# Altium footprint library adafruit.PCBLIB: 630 footprints (part 28 of 40)
Each footprint in its own frame and in the unit in brackets; x right, y up, seen from the top. Pads: shape width x height; smd on the part's side, far side on the other; paste and mask are expansions set on the pad; w line width, h text height; cw(c..) or ccw(c..) is an arc to the next point about the centre after c.
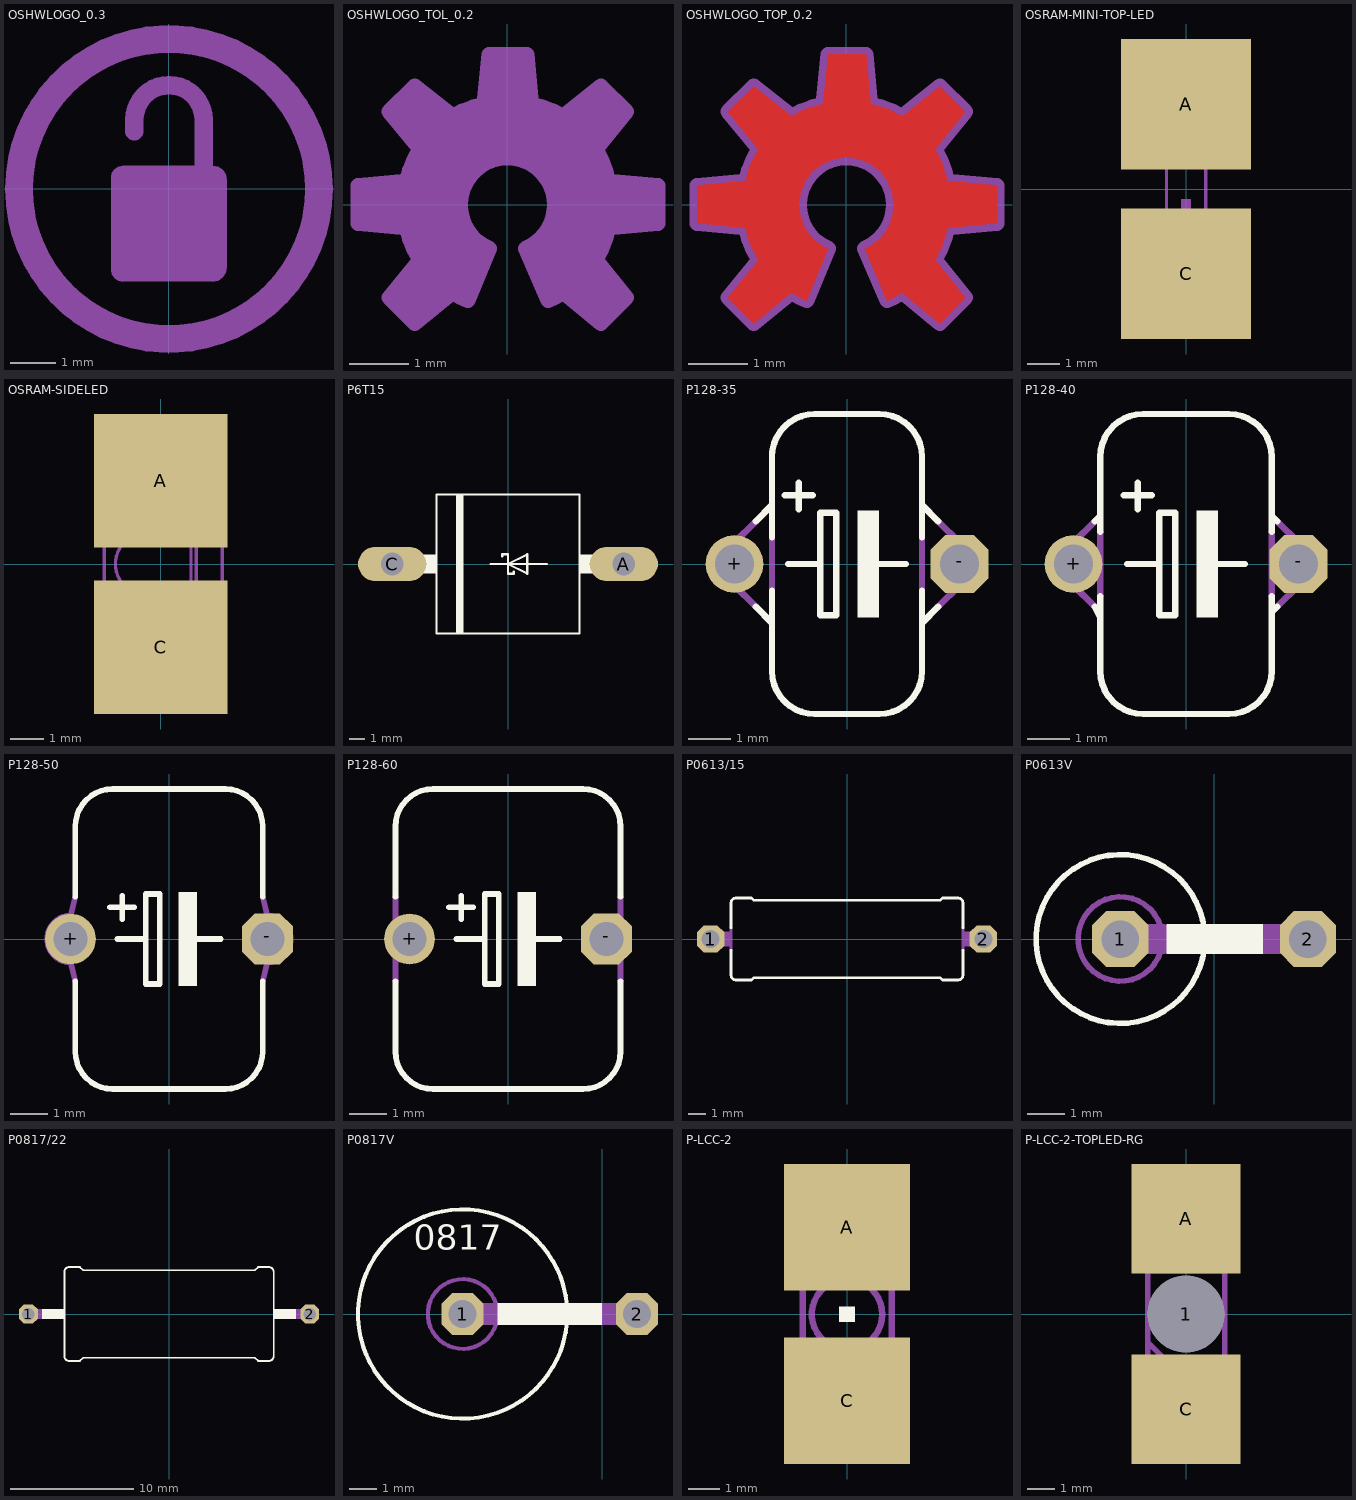
[diagram p27: the footprints below, top view; thin cyan lines are the x and y axes]

## OSHWLOGO_0.3 [mil]
Mechanical 16:
  circle w24: c0,0 r130
  region: 50.24,-68 49.3,-72.68 46.65,-76.65 42.68,-79.3 38,-80.24 38,-80 -40,-80.2 -43.9,-79.42 -47.21,-77.21 -49.42,-73.9 -50.2,-70 -50,-70 -50.2,10 -49.42,13.9 -47.21,17.21 -43.9,19.42 -40,20.2 -40,20 38,20.24 42.68,19.3 46.65,16.65 49.3,12.68 50.24,8 50,8
  lines w16: -30,50 -30,60 cw(c0,60) 0,90 cw(c0,60) 30,60 30,20

## OSHWLOGO_TOL_0.2 [mil]
Mechanical 16:
  region: 27.11,-63.79 37.1,-58.46 37,-58.3 62,-78.8 79,-61.57 59.05,-36.46 63.47,-28.19 67.31,-15.53 67,-15.46 100,-12.19 100,13 67.31,16.06 63.46,28.77 59.04,37.03 59,37 79,62 62,79 37.03,59.04 28.77,63.46 16.06,67.31 16,67 13,100 -12.19,100 -15.53,67.31 -28.19,63.47 -36.46,59.05 -36.43,59 -61.57,79 -78.8,62 -58.44,37.08 -63.81,27.02 -67.15,16.04 -66.99,16 -99.26,13 -99.26,-12.19 -67.14,-15.5 -63.82,-26.44 -58.44,-36.52 -58.3,-36.43 -78.8,-61.57 -61.57,-78.8 -36.52,-58.44 -26.44,-63.83 -26.31,-63.52 -11.96,-28.87 -15.76,-27.3 -22.29,-22.29 -27.3,-15.76 -30.45,-8.16 -31.52,0 -31.52,0.01 -30.45,8.17 -27.3,15.78 -22.28,22.31 -15.75,27.32 -8.15,30.47 0.02,31.55 8.18,30.47 15.79,27.32 22.32,22.31 27.33,15.78 30.48,8.17 31.56,0.01 30.48,-8.15 27.33,-15.76 22.32,-22.29 15.79,-27.31 12,-28.87
  lines w10: -99.26,-12.19 -99.26,13 -66.99,16 cw(c0.09,0.55) -58.3,37 -78.8,62 -61.57,79 -36.43,59 cw(c-2.05,0.35) -15.46,67 -12.19,100 13,100 16,67 cw(c2.6,0.26) 37,59 62,79 79,62 59,37 cw(c0.26,2.6) 67,16 100,13 100,-12.19 67,-15.46 cw(c0.35,-2.05) 59,-36.43 79,-61.57 62,-78.8 37,-58.3 cw(c0.61,-0.74) 27,-63.52 12,-28.87 ccw(c0.02,0.01) -31.25,0 ccw(c0,0) -11.96,-28.87 -26.31,-63.52 cw(c0.02,-0.01) -36.43,-58.3 -61.57,-78.8 -78.8,-61.57 -58.3,-36.43 cw(c0,0) -66.99,-15.46 -99.26,-12.19

## OSHWLOGO_TOP_0.2 [mil]
Top Layer:
  region: 27.11,-63.79 37.1,-58.46 37,-58.3 62,-78.8 79,-61.57 59.05,-36.46 63.47,-28.19 67.31,-15.53 67,-15.46 100,-12.19 100,13 67.31,16.06 63.46,28.77 59.04,37.03 59,37 79,62 62,79 37.03,59.04 28.77,63.46 16.06,67.31 16,67 13,100 -12.19,100 -15.53,67.31 -28.19,63.47 -36.46,59.05 -36.43,59 -61.57,79 -78.8,62 -58.44,37.08 -63.81,27.02 -67.15,16.04 -66.99,16 -99.26,13 -99.26,-12.19 -67.14,-15.5 -63.82,-26.44 -58.44,-36.52 -58.3,-36.43 -78.8,-61.57 -61.57,-78.8 -36.52,-58.44 -26.44,-63.83 -26.31,-63.52 -11.96,-28.87 -15.76,-27.3 -22.29,-22.29 -27.3,-15.76 -30.45,-8.16 -31.52,0 -31.52,0.01 -30.45,8.17 -27.3,15.78 -22.28,22.31 -15.75,27.32 -8.15,30.47 0.02,31.55 8.18,30.47 15.79,27.32 22.32,22.31 27.33,15.78 30.48,8.17 31.56,0.01 30.48,-8.15 27.33,-15.76 22.32,-22.29 15.79,-27.31 12,-28.87
Mechanical 16:
  lines w10: -99.26,-12.19 -99.26,13 -66.99,16 cw(c0.09,0.55) -58.3,37 -78.8,62 -61.57,79 -36.43,59 cw(c-2.05,0.35) -15.46,67 -12.19,100 13,100 16,67 cw(c2.6,0.26) 37,59 62,79 79,62 59,37 cw(c0.26,2.6) 67,16 100,13 100,-12.19 67,-15.46 cw(c0.35,-2.05) 59,-36.43 79,-61.57 62,-78.8 37,-58.3 cw(c0.61,-0.74) 27,-63.52 12,-28.87 ccw(c0.02,0.01) -31.25,0 ccw(c0,0) -11.96,-28.87 -26.31,-63.52 cw(c0.02,-0.01) -36.43,-58.3 -61.57,-78.8 -78.8,-61.57 -58.3,-36.43 cw(c0,0) -66.99,-15.46 -99.26,-12.19

## OSRAM-MINI-TOP-LED [mil]
pads (2):
  rect 158x158 smd: A(0,103) C(0,-102.36)
Top Overlay:
  text "A" at -25,75 h77.5
  text "C" at -25,-125 h77.5
Top Paste:
  rectangle: -19.68,24 20,56
  rectangle: -19.68,-55.12 20,-23.62
  rectangle: -17.72,26 18,54
  rectangle: -17.72,-53.15 18,-25.59
Mechanical 16:
  rectangle: -5.91,-23.62 6,-11.81
  lines w4: -17.72,38 -17.72,44 18,44 18,38 ; 18,-37.4 18,-43.31 -17.72,-43.31 -17.72,-35.43 -15.75,-35.43 ; -15.75,-35.43 24,-35.43 24,36 -23.62,36 -23.62,-27.56 -15.75,-35.43

## OSRAM-SIDELED [mil]
pads (2):
  rect 158x158 smd: A(0,99) C(0,-98.43)
Top Overlay:
  text "C" at 25,-125 h77.5
  text "A" at 25,100 h77.5
Top Paste:
  rectangle: -74.8,-82.68 75,-23.62
  rectangle: -74.8,24 75,83
Top Solder:
  rectangle: -82.68,-86.61 83,-15.75
  rectangle: -82.68,16 83,87
Mechanical 16:
  rectangle: -72.83,-80.71 -27.56,-39.37
  lines w4: 34,-47.24 -21.65,-35.43 cw(c-17.68,0.28) -21.65,36 34,48 ; 36,-80.71 36,81 ; 36,-80.71 -72.83,-80.71 -72.83,-29.53 -66.93,-29.53 -66.93,30 -72.83,30 -72.83,81 36,81 ; 36,-80.71 42,-80.71 ; 36,81 42,81 ; 42,-80.71 73,-72.83 73,73 42,81 ; 42,-80.71 42,81

## P6T15 [mil]
pads (2):
  oval 177x88.5 hole 59: A(300,0) C(-300,0)
Top Overlay:
  rectangle: -135,-180 -115,180
  rectangle: 185,-25 235,25
  rectangle: -235,-25 -185,25
  lines w6: -45,0 0,0 ; -15,20 -15,25 0,25 0,0 ; 15,-20 15,-25 0,-25 0,0 ; 100,0 0,0 ; 0,0 50,25 50,-25 0,0 ; -185,-180 -185,180 185,180 185,-180 -185,-180
Mechanical 16:
  lines w50: -300,0 -245,0 ; 245,0 300,0

## P128-35 [mil]
pads (2):
  round 54 hole 36: +(-105,0)
  oct 54x54 hole 36: -(105,0)
Top Overlay:
  rectangle: 10,-50 30,50
  lines w6: -85,-40 -70,-55 ; -85,40 -70,55 ; -70,-25 -70,-55 ; -70,25 -70,55 ; -70,100 cw(c-30,100) -30,140 30,140 cw(c30,100) 70,100 70,55 ; -70,105 -70,55 ; -58,64 -32,64 ; -55,0 -25,0 ; -45,51 -45,76 ; 25,0 55,0 ; 70,-25 70,-55 ; 70,25 70,55 ; 85,-40 70,-55 ; 85,40 70,55 ; -70,-55 -70,-100 ccw(c-30,-100) -30,-140 30,-140 ccw(c30,-100) 70,-100 70,-55 ; -25,0 -25,-48 -10,-48 -10,48 -25,48 -25,0
Mechanical 16:
  lines w6: -85,-40 -105,-20 cw(c-105,0) -105,20 -85,40 ; -70,-25 -70,25 ; 70,-25 70,25 ; 85,-40 105,-20 ccw(c105,0) 105,20 85,40

## P128-40 [mil]
pads (2):
  round 54 hole 36: +(-105,0)
  oct 54x54 hole 36: -(105,0)
Top Overlay:
  rectangle: 10,-50 30,50
  lines w6: -85,-40 -80,-50 ; -85,40 -80,45 ; -80,-30 -80,-50 ; -80,30 -80,45 ; -58,64 -32,64 ; -55,0 -25,0 ; -45,51 -45,76 ; 25,0 55,0 ; 80,-30 80,-45 ; 80,30 80,45 ; 85,-40 80,-45 ; 85,40 80,45 ; -80,-50 -80,-100 ccw(c-40,-100) -40,-140 40,-140 ccw(c40,-100) 80,-100 80,-45 ; -80,45 -80,100 cw(c-40,100) -40,140 40,140 cw(c40,100) 80,100 80,45 ; -25,0 -25,-48 -10,-48 -10,48 -25,48 -25,0
Mechanical 16:
  lines w6: -85,-40 -105,-20 cw(c-105,0) -105,20 -85,40 ; -80,-30 -80,30 ; 80,-30 80,30 ; 85,-40 105,-20 ccw(c105,0) 105,20 85,40

## P128-50 [mil]
pads (2):
  round 54 hole 36: +(-105,0)
  oct 54x54 hole 36: -(105,0)
Top Overlay:
  rectangle: 10,-50 30,50
  lines w6: -100,-45 -100,-120 ccw(c-60,-120) -60,-160 60,-160 ccw(c60,-120) 100,-120 100,-45 ; -100,45 -100,120 cw(c-60,120) -60,160 60,160 cw(c60,120) 100,120 100,45 ; -63,34 -37,34 ; -55,0 -25,0 ; -50,21 -50,46 ; 25,0 55,0 ; -25,0 -25,-48 -10,-48 -10,48 -25,48 -25,0
Mechanical 16:
  lines w6: -100,-45 -105,-25 cw(c-105,0) -105,25 -100,45 ; 100,-45 105,-25 ccw(c105,0) 105,25 100,45

## P128-60 [mil]
pads (2):
  round 54 hole 36: +(-105,0)
  oct 54x54 hole 36: -(105,0)
Top Overlay:
  rectangle: 10,-50 30,50
  lines w6: -120,-45 -120,-120 ccw(c-80,-120) -80,-160 80,-160 ccw(c80,-120) 120,-120 120,-45 ; -120,45 -120,120 cw(c-80,120) -80,160 80,160 cw(c80,120) 120,120 120,45 ; -63,34 -37,34 ; -55,0 -25,0 ; -50,21 -50,46 ; 25,0 55,0 ; -25,0 -25,-48 -10,-48 -10,48 -25,48 -25,0
Mechanical 16:
  lines w6: -120,-45 -120,45 ; 120,-45 120,45

## P0613/15 [mil]
pads (2):
  oct 60x60 hole 40: 1(-300,0) 2(300,0)
Top Overlay:
  lines w6: -255,-25 -255,-80 ccw(c-245,-80) -245,-90 -210,-90 -205,-85 205,-85 210,-90 245,-90 ccw(c245,-80) 255,-80 255,-25 ; -255,25 -255,80 cw(c-245,80) -245,90 -210,90 -205,85 205,85 210,90 245,90 cw(c245,80) 255,80 255,25
Mechanical 16:
  rectangle: -277,-16 -255,16
  rectangle: 255,-16 277,16
  lines w6: -255,-25 -255,25 ; 255,-25 255,25
  lines w32: -300,0 -275,0 ; 275,0 300,0

## P0613V [mil]
pads (2):
  oct 60x60 hole 40: 1(-100,0) 2(100,0)
Top Overlay:
  circle w6: c-100,0 r90
  rectangle: -51,-16 52,16
Mechanical 16:
  circle w6: c-100,0 r45
  lines w32: -100,0 -55,0 ; 55,0 100,0

## P0817/22 [mil]
pads (2):
  oct 60x60 hole 40: 1(-450,0) 2(450,0)
Top Overlay:
  rectangle: 335,-16 406,16
  rectangle: -406,-16 -335,16
  lines w6: -335,-135 -335,135 cw(c-320,135) -320,150 -285,150 -275,140 275,140 285,150 320,150 cw(c320,135) 335,135 335,-135 cw(c320,-135) 320,-150 285,-150 275,-140 -275,-140 -285,-150 -320,-150 cw(c-320,-135) -335,-135
Mechanical 16:
  lines w32: -450,0 -410,0 ; 410,0 450,0
  text "0817" at 260,-89 h77.5

## P0817V [mil]
pads (2):
  oct 60x60 hole 40: 1(-200,0) 2(50,0)
Top Overlay:
  circle w6: c-200,0 r150
  rectangle: -150,-16 0,16
  text "0817" at -270,80 h62
Mechanical 16:
  circle w6: c-200,0 r50
  lines w32: -200,0 -150,0 ; 0,0 50,0

## P-LCC-2 [mil]
pads (2):
  rect 158x158 smd: A(0,109) C(0,-108.27)
Top Overlay:
  rectangle: -9.84,-9.84 10,10
  text "A" at -25,100 h77.5
  text "C" at -25,-150 h77.5
Top Paste:
  rectangle: -51.18,-88.58 52,-29.53
  rectangle: -51.18,30 52,89
Top Solder:
  rectangle: -55.12,26 56,93
  rectangle: -55.12,-92.52 56,-25.59
Mechanical 16:
  circle w8: c0,0 r44
  lines w4: -43.31,-62.99 -43.31,-70.87 44,-70.87 44,-62.99 ; -43.31,63 -43.31,71 44,71 44,63
  lines w8: -55.12,-41.34 -55.12,-62.99 -43.31,-62.99 -33.46,-62.99 ; -55.12,-41.34 -33.46,-62.99 ; -55.12,-41.34 -55.12,-25.59 -55.12,63 56,63 56,-62.99 44,-62.99 -33.46,-62.99

## P-LCC-2-TOPLED-RG [mil]
pads (3):
  round 111 hole 111: 1(0,0)
  rect 158x158 smd: A(0,138) C(0,-137.8)
Top Overlay:
  circle w8: c0,0 r44
  rectangle: -9.84,-9.84 10,10
  text "A" at -25,130 h77.5
  text "C" at -25,-179.53 h77.5
Top Paste:
  rectangle: -51.18,-118.11 52,-59.06
  rectangle: -51.18,60 52,119
Top Solder:
  rectangle: -59.06,60 60,126
  rectangle: -59.06,-125.98 60,-59.06
Mechanical 16:
  rectangle: -45.28,95 46,107
  rectangle: -45.28,-106.3 46,-94.49
  lines w4: -43.31,-96.46 -43.31,-62.99 ; -43.31,63 -43.31,97 ; 44,-96.46 44,-62.99 ; 44,63 44,97
  lines w8: -55.12,-41.34 -55.12,-62.99 -43.31,-62.99 -33.46,-62.99 ; -55.12,-41.34 -33.46,-62.99 ; -55.12,-41.34 -55.12,63 56,63 56,-62.99 44,-62.99 -33.46,-62.99